# Altium schematic symbol library CD4585.SchLib: 1 symbol
Pins are listed as number, name and electrical type; pins without a type are passive.

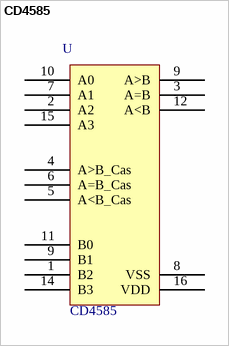
[diagram p0: symbol CD4585]

## CD4585
designator U  value CD4585  (hidden comment: *)
Manufacturer: Texas Instruments; Manufacturer Code: CD4585BPW; Farnell Code: 1753463; Unit Price: 0,61 €
footprint TSSOP16 (Footprint not found)
footprint TSSOP16
pins: 1 B2, 2 A2, 3 A=B, 4 A>B_Cas, 5 A<B_Cas, 6 A=B_Cas, 7 A1, 8 VSS, 9 B1, 9 A>B, 10 A0, 11 B0, 12 A<B, 14 B3, 15 A3, 16 VDD